# Altium schematic symbol library 存储卡连接器.SchLib: 1 symbol
Pins are listed as number, name and electrical type; pins without a type are passive.

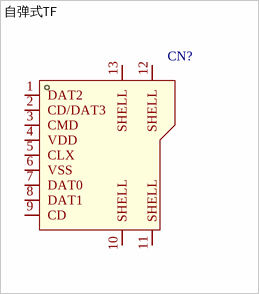
[diagram p0: symbol 自弹式TF]

## 自弹式TF
designator CN?
pins: 1 DAT2, 2 CD/DAT3, 3 CMD, 4 VDD, 5 CLX, 6 VSS, 7 DAT0, 8 DAT1, 9 CD, 10 SHELL, 11 SHELL, 12 SHELL, 13 SHELL